# Altium footprint library AltiumLib.PcbLib: 10 footprints
Each footprint in its own frame and in the unit in brackets; x right, y up, seen from the top. Pads: shape width x height; smd on the part's side, far side on the other; paste and mask are expansions set on the pad; w line width, h text height; cw(c..) or ccw(c..) is an arc to the next point about the centre after c.
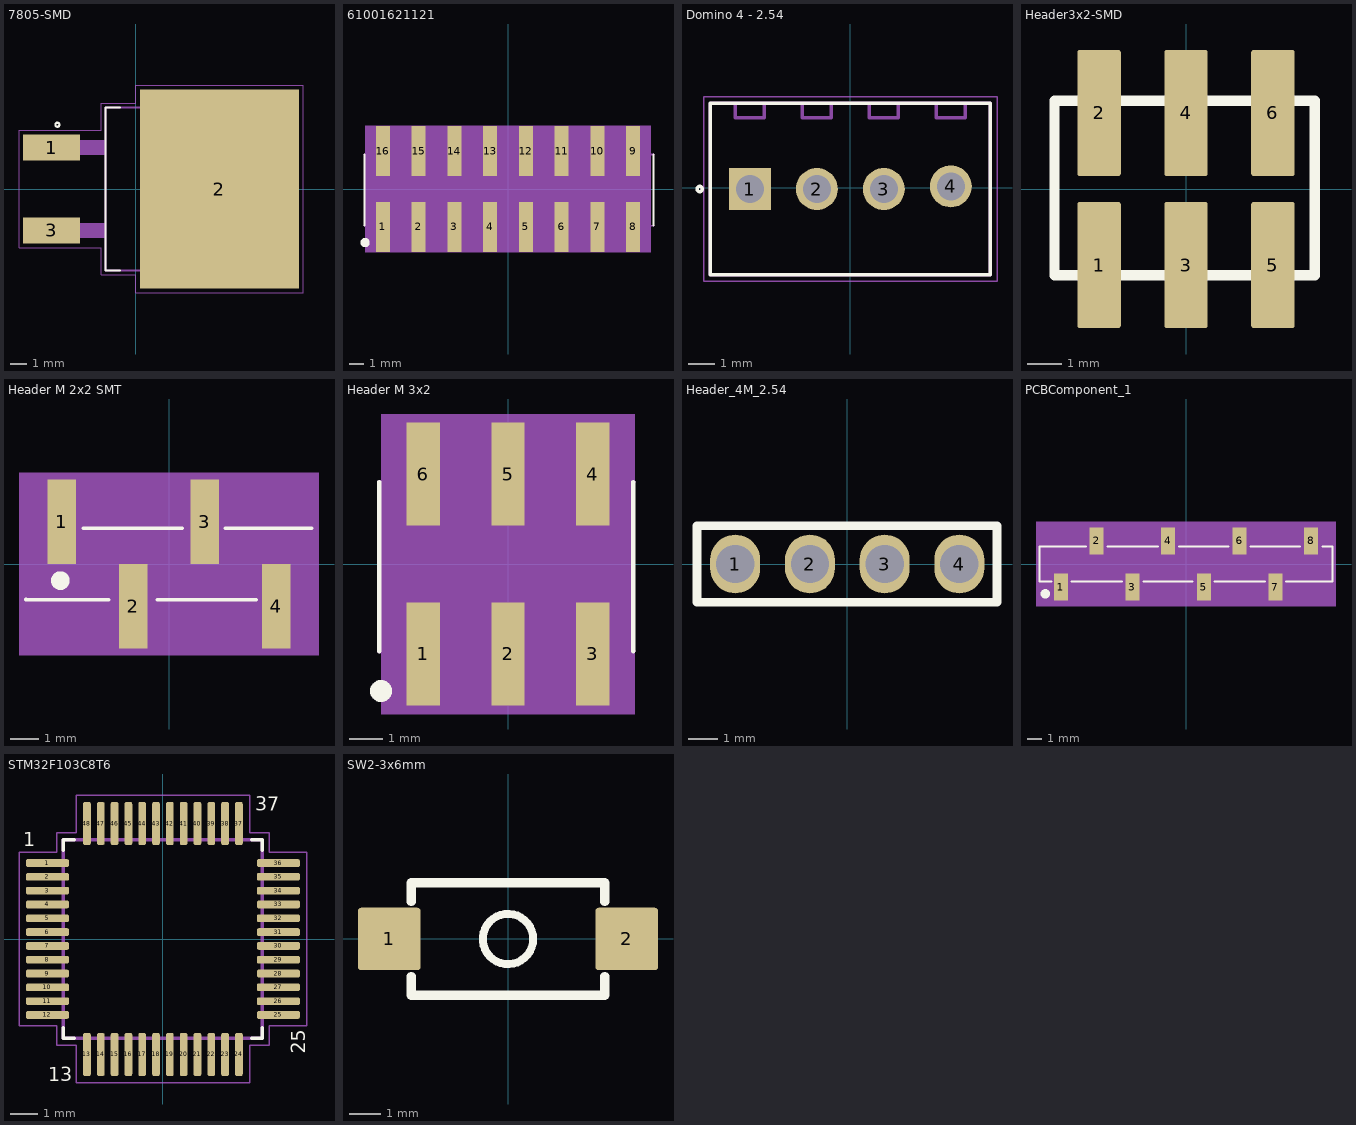
[diagram p0: the footprints below, top view; thin cyan lines are the x and y axes]

## 7805-SMD [mm]
pads (3):
  rect 3.5x1.6 smd: 1(-5.137,2.54) 3(-5.137,-2.54)
  rect 9.75x12.2 smd paste-7: 2(5.138,0)
Top Overlay:
  circle w0.127: c-4.787,3.937 r0.127
  lines w0.127: -0.952,-5 -1.837,-5 -1.837,5 -0.952,5
Top Paste:
  region: 2.873,2.362 1.492,2.362 1.492,3.83 2.873,3.83
  region: 4.843,2.362 3.464,2.362 3.464,3.83 4.843,3.83
  region: 2.873,-3.834 1.492,-3.834 1.492,-2.36 2.873,-2.36
  region: 4.843,-3.835 3.465,-3.835 3.465,-2.36 4.843,-2.36
  region: 4.843,-1.766 3.464,-1.766 3.464,-0.295 4.843,-0.295
  region: 4.843,0.295 3.465,0.295 3.465,1.765 4.843,1.765
  region: 2.873,0.296 1.492,0.296 1.492,1.765 2.873,1.765
  region: 2.873,-1.767 1.492,-1.767 1.492,-0.295 2.873,-0.295
  region: 8.783,-3.837 7.413,-3.837 7.413,-2.36 8.783,-2.36
  region: 6.813,-3.836 5.439,-3.836 5.439,-2.36 6.813,-2.36
  region: 8.783,2.362 7.407,2.362 7.407,3.83 8.783,3.83
  region: 6.813,2.363 5.437,2.363 5.437,3.83 6.813,3.83
  region: 6.813,0.295 5.439,0.295 5.439,1.765 6.813,1.765
  region: 6.813,-1.767 5.437,-1.767 5.437,-0.295 6.813,-0.295
  region: 8.783,-1.766 7.406,-1.766 7.406,-0.295 8.783,-0.295
  region: 8.783,0.295 7.412,0.295 7.412,1.765 8.783,1.765
Mechanical 13:
  region: -1.837,-2.996 -6.653,-2.996 -6.653,-2.09 -1.837,-2.09
  region: -1.837,2.094 -6.653,2.094 -6.653,2.99 -1.837,2.99
  lines w0.127: -1.837,-5 -1.837,5 8.963,5 8.963,-5 -1.837,-5
Mechanical 15:
  lines w0.05: -7.137,-3.6 -7.137,3.6 -2.087,3.6 -2.087,5.25 0.013,5.25 0.013,6.35 10.263,6.35 10.263,-6.35 0.013,-6.35 0.013,-5.25 -2.087,-5.25 -2.087,-3.6 -7.137,-3.6
3D body "step_temp.STEP": height 4.6, standoff -0.23, extent -6.15,-5.1 9.275,5.1

## 61001621121 [mm]
pads (16):
  rect 1x3.55 smd: 1(-8.89,-2.7) 2(-6.35,-2.7) 3(-3.81,-2.7) 4(-1.27,-2.7) 5(1.27,-2.7) 6(3.81,-2.7) 7(6.35,-2.7) 8(8.89,-2.7) 9(8.89,2.7) 10(6.35,2.7) 11(3.81,2.7) 12(1.27,2.7) 13(-1.27,2.7) 14(-3.81,2.7) 15(-6.35,2.7) 16(-8.89,2.7)
Top Overlay:
  circle w0.406: c-10.16,-3.81 r0.127
  lines w0.127: -10.21,-2.62 -10.21,2.46 ; 10.35,-2.62 10.35,2.46
Mechanical 13:
  lines w0.127: -10.21,-2.62 10.35,-2.62 ; -10.21,2.46 10.35,2.46
Mechanical 15:
  region: 10.16,-4.5 -10.16,-4.5 -10.16,4.5 10.16,4.5
3D body "61001621821.stp": height 7.46, standoff 0.01, extent -10.41,-3.445 10.41,3.245

## Domino 4 - 2.54 [mm]
pads (4):
  rect 1.59x1.59 / inner round 1.59 / far side rect 1.59x1.59 hole 1.06 paste+0.1: 1(-3.81,-0.05)
  round 1.59 hole 1.06 paste+0.1: 2(-1.27,-0.05) 3(1.27,-0.05) 4(3.81,0.05)
Top Overlay:
  circle w0.127: c-5.715,-0.05 r0.1
  lines w0.127: -5.31,-3.3 -5.31,3.2 5.31,3.2 5.31,-3.3 -5.31,-3.3
Mechanical 13:
  lines w0.127: -4.36,3.15 -4.36,2.65 -3.26,2.65 -3.26,3.15 ; -1.82,3.15 -1.82,2.65 -0.72,2.65 -0.72,3.15 ; 0.72,3.15 0.72,2.65 1.82,2.65 1.82,3.15 ; 3.26,3.15 3.26,2.65 4.36,2.65 4.36,3.15 ; -5.31,-3.3 5.31,-3.3 5.31,3.2 -5.31,3.2 -5.31,-3.3
Mechanical 15:
  lines w0.05: -5.56,-3.55 5.56,-3.55 5.56,3.45 -5.56,3.45 -5.56,-3.55
3D body "step_temp.STEP": height 9.5, standoff -3.9, extent -5.3,-3.3 5.32,3.2

## Header3x2-SMD [mm]
pads (6):
  rrect10% 1.27x3.68 smd paste+0.05: 1(-2.54,-2.22) 2(-2.54,2.22) 3(0,-2.22) 4(0,2.22) 5(2.54,-2.22) 6(2.54,2.22)
Top Overlay:
  lines w0.3: -3.84,-2.52 -3.84,2.58 3.76,2.58 3.76,-2.52 -3.84,-2.52

## Header M 2x2 SMT [mm]
pads (4):
  rect 1x3 smd: 1(-3.81,1.5) 2(-1.27,-1.5) 3(1.27,1.5) 4(3.81,-1.5)
Top Overlay:
  circle w0.406: c-3.86,-0.59 r0.127
  lines w0.127: -5.081,-1.261 -5.081,-1.27 -2.144,-1.27 ; -3.041,1.27 0.476,1.27 ; -0.425,-1.27 3.092,-1.27 ; 1.993,1.27 5.07,1.27
Mechanical 13:
  lines w0.127: -5.08,-1.27 5.08,-1.27 ; -5.08,1.27 5.08,1.27
  text "1" at -5.012,1.754 h0.81
  text "2" at -2.505,-2.505 h0.81
Mechanical 15:
  region: 5.33,-3.25 -5.33,-3.25 -5.33,3.25 5.33,3.25
3D body "61000418321.stp": height 9.33, standoff 0, extent -5.06,-2.6 5.1,2.4

## Header M 3x2 [mm]
pads (6):
  rect 1x3.1 smd: 1(-2.54,-2.7) 2(0,-2.7) 3(2.54,-2.7) 4(2.54,2.7) 5(0,2.7) 6(-2.54,2.7)
Top Overlay:
  circle w0.406: c-3.81,-3.81 r0.127
  lines w0.127: -3.86,-2.62 -3.86,2.46 ; 3.76,-2.62 3.76,2.46
Mechanical 13:
  lines w0.127: -3.86,-2.62 3.76,-2.62 ; -3.86,2.46 3.76,2.46
Mechanical 15:
  region: 3.81,-4.5 -3.81,-4.5 -3.81,4.5 3.81,4.5
3D body "61000621121.stp": height 9.6, standoff 0, extent -3.81,-3.75 3.81,3.75

## Header_4M_2.54 [mm]
pads (4):
  oval 1.7x2 hole 1.3 paste+0.1: 1(-3.81,0) 2(-1.27,0) 3(1.27,0) 4(3.81,0)
Top Overlay:
  lines w0.3: -5.11,-1.3 5.09,-1.3 5.09,1.3 -5.11,1.3 -5.11,-1.3

## PCBComponent_1 [mm]
pads (8):
  rect 1x1.91 smd: 1(-8.89,-1.645) 2(-6.35,1.645) 3(-3.81,-1.645) 4(-1.27,1.645) 5(1.27,-1.645) 6(3.81,1.645) 7(6.35,-1.645) 8(8.89,1.645)
Top Overlay:
  circle w0.406: c-10,-2.12 r0.127
  lines w0.127: -9.56,-1.25 -10.41,-1.25 -10.41,1.25 -7.09,1.25 ; -8.14,-1.25 -4.54,-1.25 ; -5.59,1.25 -1.99,1.25 ; -3.02,-1.25 0.46,-1.25 ; -0.52,1.25 3.03,1.25 ; 2.03,-1.25 5.63,-1.25 ; 4.57,1.25 8.12,1.25 ; 7.09,-1.25 10.41,-1.25 10.41,1.25 9.7,1.25
Mechanical 13:
  lines w0.127: -10.41,-1.25 10.41,-1.25 ; -10.41,1.25 10.41,1.25
  text "8" at 9.08,0.25 h0.81
  text "2" at -6.08,0.25 h0.81
  text "1" at -8.58,0.5 h0.81
Mechanical 15:
  region: -10.66,3 10.66,3 10.66,-3 -10.66,-3
3D body "61000813321.stp": height 7.51, standoff 0.01, extent -10.41,-2.025 10.41,2.025

## STM32F103C8T6 [mm]
pads (48):
  rrect50% 1.56x0.28 smd: 1(-4.18,2.75) 2(-4.18,2.25) 3(-4.18,1.75) 4(-4.18,1.25) 5(-4.18,0.75) 6(-4.18,0.25) 7(-4.18,-0.25) 8(-4.18,-0.75) 9(-4.18,-1.25) 10(-4.18,-1.75) 11(-4.18,-2.25) 12(-4.18,-2.75) 25(4.18,-2.75) 26(4.18,-2.25) 27(4.18,-1.75) 28(4.18,-1.25) 29(4.18,-0.75) 30(4.18,-0.25) 31(4.18,0.25) 32(4.18,0.75) 33(4.18,1.25) 34(4.18,1.75) 35(4.18,2.25) 36(4.18,2.75)
  rrect50% 0.28x1.56 smd: 13(-2.75,-4.18) 14(-2.25,-4.18) 15(-1.75,-4.18) 16(-1.25,-4.18) 17(-0.75,-4.18) 18(-0.25,-4.18) 19(0.25,-4.18) 20(0.75,-4.18) 21(1.25,-4.18) 22(1.75,-4.18) 23(2.25,-4.18) 24(2.75,-4.18) 37(2.75,4.18) 38(2.25,4.18) 39(1.75,4.18) 40(1.25,4.18) 41(0.75,4.18) 42(0.25,4.18) 43(-0.25,4.18) 44(-0.75,4.18) 45(-1.25,4.18) 46(-1.75,4.18) 47(-2.25,4.18) 48(-2.75,4.18)
Top Overlay:
  lines w0.127: -3.6,-3.21 -3.6,-3.6 -3.21,-3.6 ; -3.6,3.21 -3.6,3.6 -3.21,3.6 ; 3.21,-3.6 3.6,-3.6 3.6,-3.21 ; 3.21,3.6 3.6,3.6 3.6,3.21
  text "37" at 3.35,4.65 h0.5
  text "25" at 5.15,-4.15 h0.5
  text "13" at -4.15,-5.15 h0.5
  text "1" at -5.05,3.35 h0.5
Mechanical 13:
  lines w0.127: -3.6,-3.6 -3.6,3.6 3.6,3.6 3.6,-3.6 -3.6,-3.6
  text "37" at 3.35,4.65 h0.5
  text "25" at 5.15,-4.15 h0.5
  text "13" at -4.15,-5.15 h0.5
  text "1" at -5.05,3.35 h0.5
Mechanical 15:
  lines w0.05: -5.21,-3.14 -5.21,3.14 -3.85,3.14 -3.85,3.85 -3.14,3.85 -3.14,5.21 3.14,5.21 3.14,3.85 3.85,3.85 3.85,3.14 5.21,3.14 5.21,-3.14 3.85,-3.14 3.85,-3.85 3.14,-3.85 3.14,-5.21 -3.14,-5.21 -3.14,-3.85 -3.85,-3.85 -3.85,-3.14 -5.21,-3.14
3D body "step_temp.STEP": height 1.46, standoff -0.14, extent -4.5,-4.5 4.5,4.5

## SW2-3x6mm [mm]
pads (2):
  rrect10% 2x2 smd mask+0.2: 1(-3.8,0) 2(3.8,0)
Top Overlay:
  circle w0.254: c0,0 r0.806
  lines w0.3: -3.1,-1.2 -3.1,-1.8 3.1,-1.8 3.1,-1.2 ; -3.1,1.2 -3.1,1.8 3.1,1.8 3.1,1.2